# EAGLE library part MMPQ3904 (library customics)
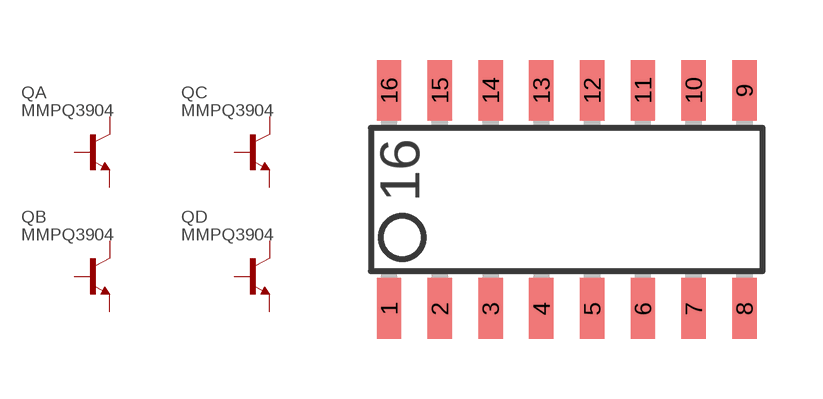
[diagram p5: symbol with the pads of SO-16; footprint SO-16]

Designator prefix Q; gates A=NPN B=NPN C=NPN D=NPN

## MMPQ3904  [SO-16]
1  A:C  pas
2  A:C  pas
3  B:C  pas
4  B:C  pas
5  C:C  pas
6  C:C  pas
7  D:C  pas
8  D:C  pas
9  D:B  pas
10  D:E  pas
11  C:B  pas
12  C:E  pas
13  B:B  pas
14  B:E  pas
15  A:B  pas
16  A:E  pas

## Footprint SO-16 (pad centres in mm)
Small Outline Integrated Circuit
smd 0.61 x 1.524: 1 -4.445,-2.794; 2 -3.175,-2.794; 3 -1.905,-2.794; 4 -0.635,-2.794; 5 0.635,-2.794; 6 1.905,-2.794; 7 3.175,-2.794; 8 4.445,-2.794; 9 4.445,2.667; 10 3.175,2.667; 11 1.905,2.667; 12 0.635,2.667; 13 -0.635,2.667; 14 -1.905,2.667; 15 -3.175,2.667; 16 -4.445,2.667